# Altium integrated library LDL1117S33R.IntLib: 1 symbol
Pins are listed as number, name and electrical type; pins without a type are passive.

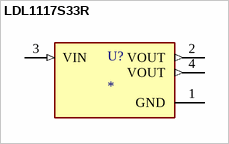
[diagram p0: symbol LDL1117S33R]

## LDL1117S33R
designator U?
Linear Voltage Regulator IC Positive Fixed 1 Output 1.2A SOT-223; MP: LDL1117S33R; MF: STMicroelectronics; Package: SOT-223 STMicroelectronics; Purchase-URL: https://pricing.snapeda.com/search/part/LDL1117S33R/?ref=eda; Price: None; Value: *; SnapEDA_Link: https://www.snapeda.com/parts/LDL1117S33R/STMicroelectronics/view-part/?ref=snap; Check_prices: https://www.snapeda.com/parts/LDL1117S33R/STMicroelectronics/view-part/?ref=eda; Availability: In Stock
footprint SOT230P700X180-4N
pins: 1 GND (power), 2 VOUT (out), 3 VIN (in), 4 VOUT (out)